# Altium footprint library 400236.PcbLib: 96 footprints (part 6 of 6)
Each footprint in its own frame and in the unit in brackets; x right, y up, seen from the top. Pads: shape width x height; smd on the part's side, far side on the other; paste and mask are expansions set on the pad; w line width, h text height; cw(c..) or ccw(c..) is an arc to the next point about the centre after c.
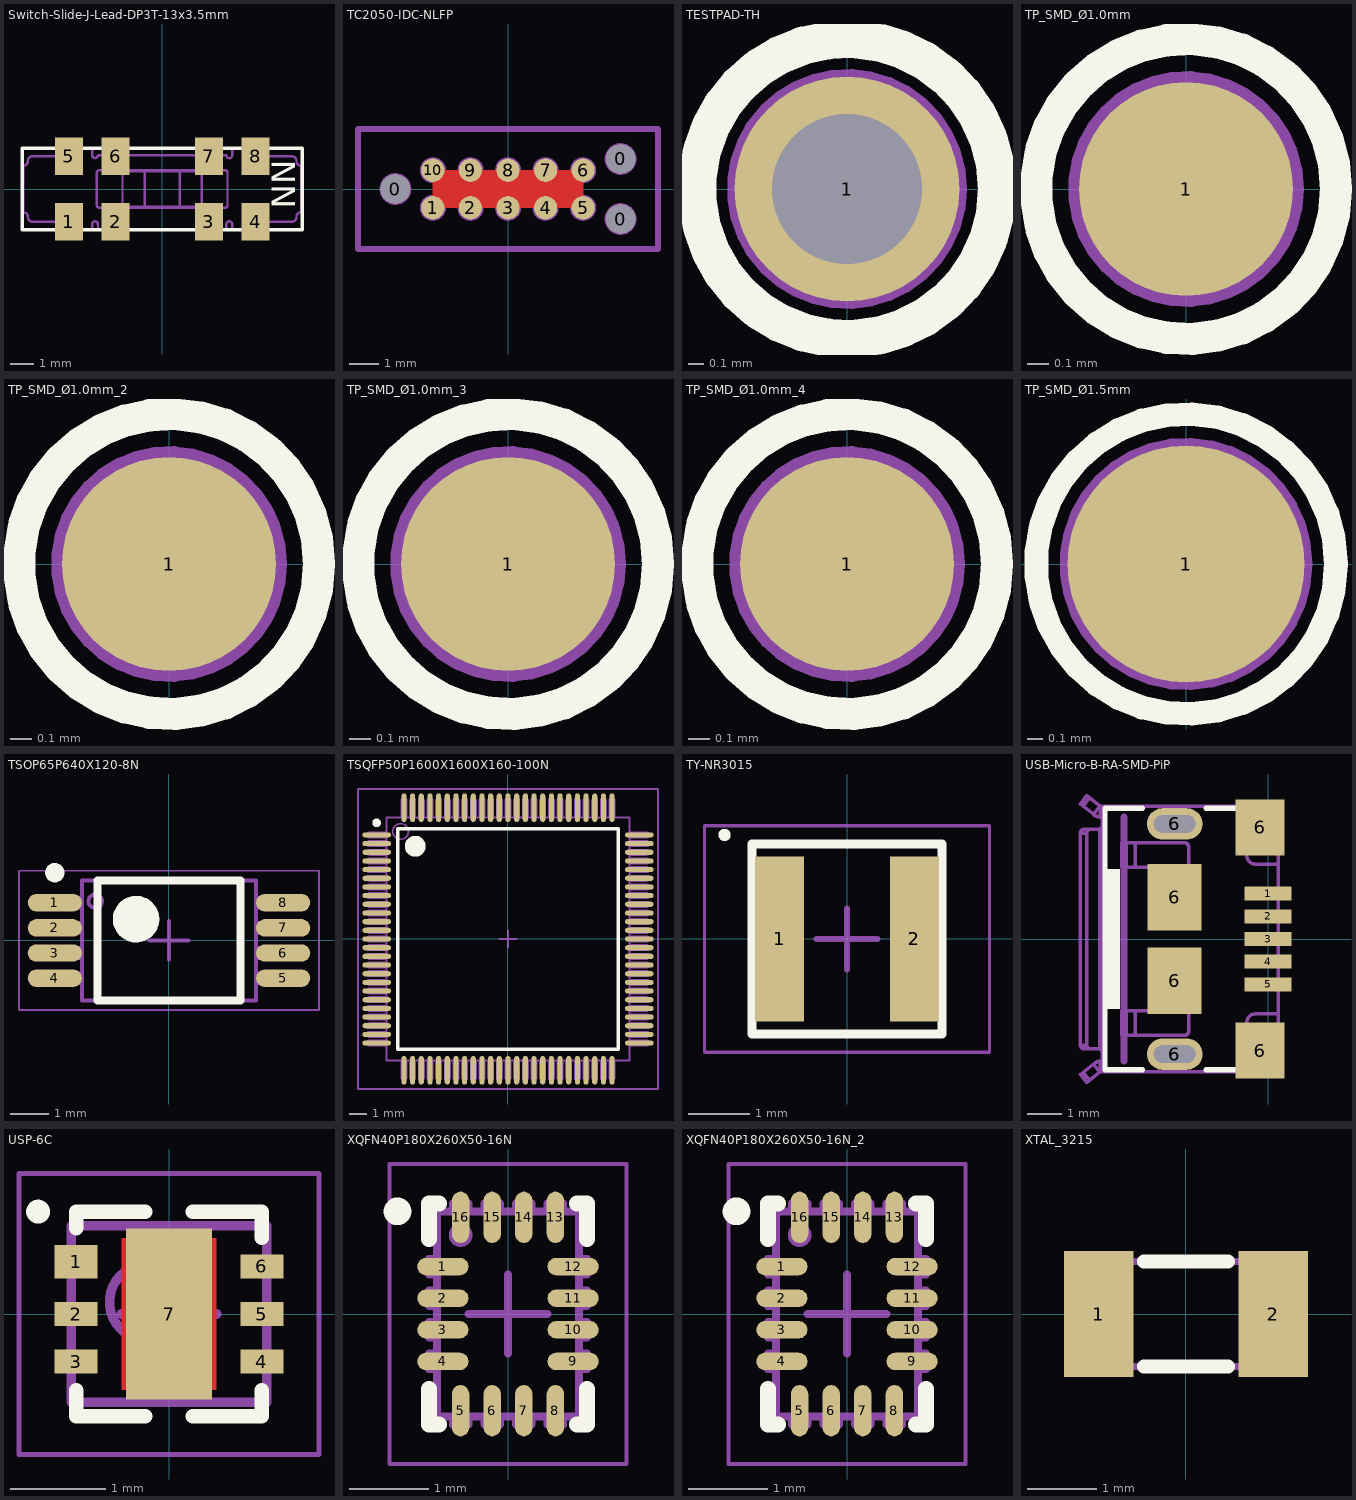
[diagram p5: the footprints below, top view; thin cyan lines are the x and y axes]

## Switch-Slide-J-Lead-DP3T-13x3.5mm [mm]
pads (8):
  rect 1.2x1.6 smd: 1(-4,-1.4) 2(-2,-1.4) 3(2,-1.4) 4(4,-1.4) 5(-4,1.4) 6(-2,1.4) 7(2,1.4) 8(4,1.4)
Top Overlay:
  lines w0.152: -6,-1.75 6,-1.75 6,1.75 -6,1.75 -6,-1.75
  text "NN" at 5.7,-0.85 h1.02
Mechanical 7:
  lines w0.1: -6.002,-1.75 -6.002,-1 -5.952,-1 ; -6.002,1.751 -6.002,1.001 -5.952,1.001 ; -6,-1.75 6,-1.75 6,-1 5.95,-1 ; -6,1.751 6,1.751 6,1.001 5.95,1.001 ; -4.003,1.4 -4.002,1.751 ; -4.003,1.4 cw(c-4.127,1.4) -4.252,1.4 -5.552,1.4 ccw(c-5.552,1.2) -5.752,1.191 cw(c-5.943,1.191) -5.952,1.001 ; -4.002,-1.75 -4.002,-1.6 ccw(c-4.203,-1.601) -4.19,-1.4 -5.552,-1.399 cw(c-5.552,-1.199) -5.752,-1.19 ccw(c-5.943,-1.19) -5.952,-1 ; -3.002,1.45 -3.002,1.751 ; -3.002,-1.75 -3.002,-1.51 cw(c-2.877,-1.51) -2.752,-1.51 -2.752,-1.75 ; -3.002,1.448 ccw(c-2.877,1.448) -2.752,1.448 2.75,1.448 ccw(c2.875,1.448) 2.999,1.448 ; 0.748,-0.75 1.698,-0.75 1.698,0.75 0.748,0.75 ; 2.75,-1.75 2.75,-1.51 cw(c2.875,-1.51) 2.999,-1.51 2.999,-1.75 ; 3,1.45 3,1.751 ; 4,-1.75 4,-1.6 cw(c4.201,-1.601) 4.188,-1.4 5.55,-1.399 ccw(c5.55,-1.199) 5.75,-1.19 cw(c5.94,-1.19) 5.95,-1 ; 4,1.751 4,1.4 ; 4,1.4 ccw(c4.125,1.4) 4.25,1.4 5.55,1.4 cw(c5.55,1.2) 5.75,1.191 ccw(c5.94,1.191) 5.95,1.001 ; -5.952,-1 -5.952,1.001 ; -0.751,-0.75 -1.701,-0.75 -1.701,0.75 -0.751,0.75 ; -0.751,-0.75 0.749,-0.75 0.749,0.75 -0.751,0.75 ; -0.751,-0.75 -0.751,0.75 ; 5.95,-1 5.95,1.001 ; -2.8,-0.7 ccw(c-2.7,-0.7) -2.7,-0.8 2.7,-0.8 ccw(c2.7,-0.7) 2.8,-0.7 2.8,0.7 ccw(c2.7,0.7) 2.7,0.8 -2.7,0.8 ccw(c-2.7,0.7) -2.8,0.7 -2.8,-0.7
  text ".Designator" at -0.447,-0.149 h0.3
3D body "CL-SB-23A-01T.stp": height 5.5, standoff 0, extent -6,-1.8 6,1.7

## TC2050-IDC-NLFP [mil]
pads (13):
  round 39 hole 39 unplated mask+3: 0(-150,0) 0(150,-40) 0(150,40)
  round 31 smd paste-196.85: 1(-100,-25) 2(-50,-25) 3(0,-25) 4(50,-25) 5(100,-25) 6(100,25) 7(50,25) 8(0,25) 9(-50,25) 10(-100,25)
Top Layer:
  pour cut-out: -100,25 -100,-25 100,-25 100,25
Mechanical 7:
  circle w3.94: c-100,24.99 r15.45
  circle w3.94: c-100,-24.99 r15.45
  circle w3.94: c-50,-24.99 r15.45
  circle w3.94: c0,-24.99 r15.45
  circle w3.94: c0,24.99 r15.45
  circle w3.94: c-50,24.99 r15.45
  circle w3.94: c50,24.99 r15.45
  circle w3.94: c50,-24.99 r15.45
  circle w3.94: c100,-24.99 r15.45
  circle w3.94: c100,24.99 r15.45
  circle w3.94: c150,-39.98 r19.26
  circle w3.94: c150,39.98 r19.26
  circle w3.94: c-150,0 r19.26
  text ".Designator" at -10,-70 h15
Mechanical 8:
  circle w3.94: c-150,0 r19.26
  circle w3.94: c150,39.98 r19.26
  circle w3.94: c150,-39.98 r19.26
Mechanical 15:
  lines w7.87: -199.8,-79.92 -199.8,79.92 199.8,79.92 199.8,-79.92 -199.8,-79.92

## TESTPAD-TH [mm]
pads (1):
  round 1.5 hole 1: 1(0,0)
Top Overlay:
  circle w0.254: c0,0 r1
Mechanical 7:
  circle w0.1: c0,0 r1
  circle w0.1: c0,0 r0.75
  circle w0.1: c0,0 r0.5
  text ".Designator" at -0.483,-0.178 h0.3

## TP_SMD_Ø1.0mm [mm]
pads (1):
  round 1 smd paste-5: 1(0,0)
Top Overlay:
  circle w0.15: c0,0 r0.7
Mechanical 7:
  circle w0.1: c0,0 r0.5
  circle w0.1: c0,0 r0.7
  text ".Designator" at -0.633,0.918 h0.38

## TP_SMD_Ø1.0mm_2 [mm]
pads (1):
  round 1 smd paste-5: 1(0,0)
Top Overlay:
  circle w0.15: c0,0 r0.7
Mechanical 7:
  circle w0.1: c0,0 r0.7
  circle w0.1: c0,0 r0.5
  text ".Designator" at -0.541,-0.15 h0.3

## TP_SMD_Ø1.0mm_3 [mm]
pads (1):
  round 1 smd paste-5: 1(0,0)
Top Overlay:
  circle w0.15: c0,0 r0.7
Mechanical 7:
  circle w0.1: c0,0 r0.7
  circle w0.1: c0,0 r0.5
  text ".Designator" at -0.541,-0.15 h0.3

## TP_SMD_Ø1.0mm_4 [mm]
pads (1):
  round 1 smd paste-5: 1(0,0)
Top Overlay:
  circle w0.15: c0,0 r0.7
Mechanical 7:
  circle w0.1: c0,0 r0.7
  circle w0.1: c0,0 r0.5
  text ".Designator" at 0.535,0.139 h0.3

## TP_SMD_Ø1.5mm [mm]
pads (1):
  round 1.5 smd paste-5: 1(0,0)
Top Overlay:
  circle w0.15: c0,0 r0.95
Mechanical 7:
  circle w0.1: c0,0 r0.75
  circle w0.1: c0,0 r0.95
  text ".Designator" at -0.9,1.175 h0.38

## TSOP65P640X120-8N [mm]
pads (8):
  oval 1.4x0.45 smd: 1(-2.95,0.975) 2(-2.95,0.325) 3(-2.95,-0.325) 4(-2.95,-0.975) 5(2.95,-0.975) 6(2.95,-0.325) 7(2.95,0.325) 8(2.95,0.975)
Top Overlay:
  circle w0.6: c-0.85,0.55 r0.3
  circle w0.25: c-2.95,1.75 r0.125
  lines w0.2: -1.85,-1.55 1.85,-1.55 1.85,1.55 -1.85,1.55 -1.85,-1.55
Mechanical 7:
  circle w0.1: c-1.905,1.016 r0.175
  lines w0.1: -2.25,-1.55 2.25,-1.55 2.25,1.55 -2.25,1.55 -2.25,-1.55
  lines w0.102: -2.25,-1.1 -3.25,-1.1 -3.25,-0.85 -2.25,-0.85 ; -2.25,-0.45 -3.25,-0.45 -3.25,-0.2 -2.25,-0.2 ; -2.25,0.2 -3.25,0.2 -3.25,0.45 -2.25,0.45 ; -2.25,0.85 -3.25,0.85 -3.25,1.1 -2.25,1.1 ; 2.25,-1.1 3.25,-1.1 3.25,-0.85 2.25,-0.85 ; 2.25,-0.45 3.25,-0.45 3.25,-0.2 2.25,-0.2 ; 2.25,0.2 3.25,0.2 3.25,0.45 2.25,0.45 ; 2.25,0.85 3.25,0.85 3.25,1.1 2.25,1.1
Mechanical 15:
  lines w0.05: -3.875,-1.8 3.875,-1.8 3.875,1.8 -3.875,1.8 -3.875,-1.8
  lines w0.1: -0.5,0 0.5,0 ; 0,-0.5 0,0.5
3D body "TSOP65P640X120-8N_asfdasdf.step": height 1.2, standoff 0, extent -3.2,-1.55 3.2,1.55

## TSQFP50P1600X1600X160-100N [mm]
pads (100):
  oval 1.65x0.3 smd: 1(-7.575,6) 2(-7.575,5.5) 3(-7.575,5) 4(-7.575,4.5) 5(-7.575,4) 6(-7.575,3.5) 7(-7.575,3) 8(-7.575,2.5) 9(-7.575,2) 10(-7.575,1.5) 11(-7.575,1) 12(-7.575,0.5) 13(-7.575,0) 14(-7.575,-0.5) 15(-7.575,-1) 16(-7.575,-1.5) 17(-7.575,-2) 18(-7.575,-2.5) 19(-7.575,-3) 20(-7.575,-3.5) 21(-7.575,-4) 22(-7.575,-4.5) 23(-7.575,-5) 24(-7.575,-5.5) 25(-7.575,-6) 51(7.575,-6) 52(7.575,-5.5) 53(7.575,-5) 54(7.575,-4.5) 55(7.575,-4) 56(7.575,-3.5) 57(7.575,-3) 58(7.575,-2.5) 59(7.575,-2) 60(7.575,-1.5) 61(7.575,-1) 62(7.575,-0.5) 63(7.575,0) 64(7.575,0.5) 65(7.575,1) 66(7.575,1.5) 67(7.575,2) 68(7.575,2.5) 69(7.575,3) 70(7.575,3.5) 71(7.575,4) 72(7.575,4.5) 73(7.575,5) 74(7.575,5.5) 75(7.575,6)
  oval 0.3x1.65 smd: 26(-6,-7.575) 27(-5.5,-7.575) 28(-5,-7.575) 29(-4.5,-7.575) 30(-4,-7.575) 31(-3.5,-7.575) 32(-3,-7.575) 33(-2.5,-7.575) 34(-2,-7.575) 35(-1.5,-7.575) 36(-1,-7.575) 37(-0.5,-7.575) 38(0,-7.575) 39(0.5,-7.575) 40(1,-7.575) 41(1.5,-7.575) 42(2,-7.575) 43(2.5,-7.575) 44(3,-7.575) 45(3.5,-7.575) 46(4,-7.575) 47(4.5,-7.575) 48(5,-7.575) 49(5.5,-7.575) 50(6,-7.575) 76(6,7.575) 77(5.5,7.575) 78(5,7.575) 79(4.5,7.575) 80(4,7.575) 81(3.5,7.575) 82(3,7.575) 83(2.5,7.575) 84(2,7.575) 85(1.5,7.575) 86(1,7.575) 87(0.5,7.575) 88(0,7.575) 89(-0.5,7.575) 90(-1,7.575) 91(-1.5,7.575) 92(-2,7.575) 93(-2.5,7.575) 94(-3,7.575) 95(-3.5,7.575) 96(-4,7.575) 97(-4.5,7.575) 98(-5,7.575) 99(-5.5,7.575) 100(-6,7.575)
Top Overlay:
  circle w0.25: c-7.575,6.7 r0.125
  circle w0.6: c-5.35,5.35 r0.3
  lines w0.2: -6.35,-6.35 -6.35,6.35 6.35,6.35 6.35,-6.35 -6.35,-6.35
Mechanical 7:
  drawing of 405 lines, arcs and shapes, not listed
Mechanical 15:
  lines w0.1: -0.5,0 0.5,0 ; 0,-0.5 0,0.5 ; -8.65,-8.65 -8.65,8.65 8.65,8.65 8.65,-8.65 -8.65,-8.65
3D body "User Library-LQFP-100 (2).step": height 1.6, standoff 0, extent -8.001,-8 7.999,8

## TY-NR3015 [mm]
pads (2):
  rect 0.8x2.7 smd: 1(-1.1,0) 2(1.1,0)
Top Overlay:
  circle w0.1: c-2,1.7 r0.05
  lines w0.15: -1.55,-1.55 -1.55,1.55 1.55,1.55 1.55,-1.55 -1.55,-1.55
Mechanical 13:
  lines w0.1: -1.55,-1.55 -1.55,1.55 1.55,1.55 1.55,-1.55 -1.55,-1.55
Mechanical 15:
  lines w0.05: -2.325,-1.85 -2.325,1.85 2.325,1.85 2.325,-1.85 -2.325,-1.85
  lines w0.1: -0.5,0 0.5,0 ; 0,-0.5 0,0.5
3D body "User Library-nr3015.step": height 1.35, standoff -0.15, extent -1.5,-1.5 1.5,1.5

## USB-Micro-B-RA-SMD-PiP [mm]
pads (13):
  rect 1.35x0.4 smd: 1(0,1.3) 2(0,0.65) 3(0,0) 4(0,-0.65) 5(0,-1.3)
  oval 1.6x0.9 hole 0.5 slot 1.2 at 0 deg: 6(-2.675,-3.3) 6(-2.675,3.3)
  oval 2x1.5 on Top Paste: 6(-2.675,-3.3) 6(-2.675,3.3)
  rect 1.55x1.9 smd: 6(-2.675,-1.2) 6(-2.675,1.2)
  rect 1.4x1.6 smd: 6(-0.225,-3.2) 6(-0.225,3.2)
Top Overlay:
  rectangle: -4.75,-2 -4.25,2
  lines w0.152: -3.6,-3.75 -4.675,-3.75 -4.675,3.75 -3.6,3.75 ; -1.775,-3.75 0.25,-3.75 0.25,-3.275 ; -1.775,3.75 0.25,3.75 0.25,3.275
Mechanical 7:
  drawing of 2738 lines, arcs and shapes, not listed
  text ".Designator" at -3.414,-0.127 h0.3
Mechanical 15:
  lines w0.2: -4.125,-3.5 -4.125,3.5
3D body "User Library-MicroUSB-B_Molex_105017-0001.step": height 2.72, standoff -0.59, extent -5.28,-4.1 0.15,4.1

## USP-6C [mm]
pads (7):
  rect 0.45x0.35 smd paste-0.05: 1(-0.975,0.55)
  rect 0.45x0.25 smd paste-0.05: 2(-0.975,0) 3(-0.975,-0.5) 4(0.975,-0.5) 5(0.975,0) 6(0.975,0.5)
  rect 0.9x1.8 smd paste-2: 7(0,0)
Top Layer:
  rectangle: -0.5,-0.8 0.5,0.8
Top Overlay:
  circle w0.15: c-1.375,1.075 r0.05
  lines w0.15: -0.975,-0.8 -0.975,-1.075 -0.25,-1.075 ; -0.975,0.9 -0.975,1.075 -0.25,1.075 ; 0.25,-1.075 0.975,-1.075 0.975,-0.8 ; 0.25,1.075 0.975,1.075 0.975,0.8
Top Paste:
  rectangle: 0.8,0.375 1.15,0.625
  rectangle: 0.8,-0.125 1.15,0.125
  rectangle: 0.8,-0.625 1.15,-0.375
  rectangle: -1.15,-0.625 -0.8,-0.375
  rectangle: -1.15,-0.125 -0.8,0.125
  rectangle: -1.15,0.375 -0.8,0.725
  region: 0.4,-0.3 -0.4,-0.3 -0.4,-0.6 0.4,-0.6
  region: 0.25,-0.325 -0.25,-0.325 -0.25,-0.7 0.25,-0.7
  rectangle: -0.25,0.325 0.25,0.7
  rectangle: -0.4,0.3 0.4,0.6
Mechanical 7:
  circle w0.1: c-0.225,0.125 r0.4
  lines w0.1: -1.025,-0.925 1.025,-0.925 1.025,0.925 -1.025,0.925 -1.025,-0.925
  text ".Designator" at 0.66,-0.33 h0.3
Mechanical 15:
  lines w0.05: -1.575,-1.475 1.575,-1.475 1.575,1.475 -1.575,1.475 -1.575,-1.475
  lines w0.1: -0.5,0 0.5,0 ; 0,-0.5 0,0.5
3D body "QFN50P200X180X60_HS-7N.step": height 0.6, standoff 0, extent -0.926,-1.025 0.926,1.025

## XQFN40P180X260X50-16N [mm]
pads (16):
  oval 0.65x0.22 smd paste-0.02 mask+0.062: 1(-0.825,0.6) 2(-0.825,0.2) 3(-0.825,-0.2) 4(-0.825,-0.6) 9(0.825,-0.6) 10(0.825,-0.2) 11(0.825,0.2) 12(0.825,0.6)
  oval 0.22x0.65 smd paste-0.02 mask+0.062: 5(-0.6,-1.225) 6(-0.2,-1.225) 7(0.2,-1.225) 8(0.6,-1.225) 13(0.6,1.225) 14(0.2,1.225) 15(-0.2,1.225) 16(-0.6,1.225)
Top Overlay:
  circle w0.25: c-1.4,1.3 r0.05
  lines w0.2: -1,-0.95 -1,-1.4 -0.875,-1.4 ; -1,0.95 -1,1.4 -0.875,1.4 ; 0.875,-1.4 1,-1.4 1,-0.95 ; 0.875,1.4 1,1.4 1,0.95
Mechanical 7:
  circle w0.1: c-0.6,1 r0.1
  lines w0.1: -0.9,-0.7 -1,-0.7 -1,-0.5 -0.9,-0.5 ; -0.9,-0.3 -1,-0.3 -1,-0.1 -0.9,-0.1 ; -0.9,0.1 -1,0.1 -1,0.3 -0.9,0.3 ; -0.9,0.5 -1,0.5 -1,0.7 -0.9,0.7 ; -0.7,-1.3 -0.7,-1.4 -0.5,-1.4 -0.5,-1.3 ; -0.7,1.3 -0.7,1.4 -0.5,1.4 -0.5,1.3 ; -0.3,-1.3 -0.3,-1.4 -0.1,-1.4 -0.1,-1.3 ; -0.3,1.3 -0.3,1.4 -0.1,1.4 -0.1,1.3 ; 0.1,-1.3 0.1,-1.4 0.3,-1.4 0.3,-1.3 ; 0.1,1.3 0.1,1.4 0.3,1.4 0.3,1.3 ; 0.5,-1.3 0.5,-1.4 0.7,-1.4 0.7,-1.3 ; 0.5,1.3 0.5,1.4 0.7,1.4 0.7,1.3 ; 0.9,-0.7 1,-0.7 1,-0.5 0.9,-0.5 ; 0.9,-0.3 1,-0.3 1,-0.1 0.9,-0.1 ; 0.9,0.1 1,0.1 1,0.3 0.9,0.3 ; 0.9,0.5 1,0.5 1,0.7 0.9,0.7 ; -0.9,-1.3 -0.9,1.3 0.9,1.3 0.9,-1.3 -0.9,-1.3
  text ".Designator" at -0.126,0.193 h0.3
Mechanical 15:
  lines w0.05: -1.5,-1.9 -1.5,1.9 1.5,1.9 1.5,-1.9 -1.5,-1.9
  lines w0.1: -0.5,0 0.5,0 ; 0,-0.5 0,0.5
3D body "User Library-XQFN-16-1.step": height 0.55, standoff 0, extent -0.91,-1.31 0.91,1.31
3D body: height 0.55, standoff 0.4, extent -0.9,-0.35 0.9,0.35

## XQFN40P180X260X50-16N_2 [mm]
pads (16):
  oval 0.65x0.22 smd paste-0.02 mask+0.062: 1(-0.825,0.6) 2(-0.825,0.2) 3(-0.825,-0.2) 4(-0.825,-0.6) 9(0.825,-0.6) 10(0.825,-0.2) 11(0.825,0.2) 12(0.825,0.6)
  oval 0.22x0.65 smd paste-0.02 mask+0.062: 5(-0.6,-1.225) 6(-0.2,-1.225) 7(0.2,-1.225) 8(0.6,-1.225) 13(0.6,1.225) 14(0.2,1.225) 15(-0.2,1.225) 16(-0.6,1.225)
Top Overlay:
  circle w0.25: c-1.4,1.3 r0.05
  lines w0.2: -1,-0.95 -1,-1.4 -0.875,-1.4 ; -1,0.95 -1,1.4 -0.875,1.4 ; 0.875,-1.4 1,-1.4 1,-0.95 ; 0.875,1.4 1,1.4 1,0.95
Mechanical 7:
  circle w0.1: c-0.6,1 r0.1
  lines w0.1: -0.9,-0.7 -1,-0.7 -1,-0.5 -0.9,-0.5 ; -0.9,-0.3 -1,-0.3 -1,-0.1 -0.9,-0.1 ; -0.9,0.1 -1,0.1 -1,0.3 -0.9,0.3 ; -0.9,0.5 -1,0.5 -1,0.7 -0.9,0.7 ; -0.7,-1.3 -0.7,-1.4 -0.5,-1.4 -0.5,-1.3 ; -0.7,1.3 -0.7,1.4 -0.5,1.4 -0.5,1.3 ; -0.3,-1.3 -0.3,-1.4 -0.1,-1.4 -0.1,-1.3 ; -0.3,1.3 -0.3,1.4 -0.1,1.4 -0.1,1.3 ; 0.1,-1.3 0.1,-1.4 0.3,-1.4 0.3,-1.3 ; 0.1,1.3 0.1,1.4 0.3,1.4 0.3,1.3 ; 0.5,-1.3 0.5,-1.4 0.7,-1.4 0.7,-1.3 ; 0.5,1.3 0.5,1.4 0.7,1.4 0.7,1.3 ; 0.9,-0.7 1,-0.7 1,-0.5 0.9,-0.5 ; 0.9,-0.3 1,-0.3 1,-0.1 0.9,-0.1 ; 0.9,0.1 1,0.1 1,0.3 0.9,0.3 ; 0.9,0.5 1,0.5 1,0.7 0.9,0.7 ; -0.9,-1.3 0.9,-1.3 0.9,1.3 -0.9,1.3 -0.9,-1.3
  text ".Designator" at -0.075,0.336 h0.3
Mechanical 15:
  lines w0.05: -1.5,-1.9 1.5,-1.9 1.5,1.9 -1.5,1.9 -1.5,-1.9
  lines w0.1: -0.5,0 0.5,0 ; 0,-0.5 0,0.5
3D body: height 0.55, standoff 0.4, extent -0.9,-0.35 0.9,0.35
3D body "User Library-XQFN-16-1.step": height 0.55, standoff 0, extent -0.91,-1.31 0.91,1.31

## XTAL_3215 [mm]
pads (2):
  rect 1x1.8 smd: 1(-1.25,0) 2(1.25,0)
Top Overlay:
  lines w0.2: -0.6,-0.75 0.6,-0.75 ; -0.6,0.75 0.6,0.75
Mechanical 7:
  lines w0.1: -1.6,-0.75 -1.6,0.75 1.6,0.75 1.6,-0.75 -1.6,-0.75
  text ".Designator" at -0.261,-0.184 h0.3
Mechanical 15:
  lines w0.1: -1.6,-0.55 cw(c-1.6,-0.75) -1.4,-0.75 1.4,-0.75 cw(c1.6,-0.75) 1.6,-0.55 1.6,0.55 cw(c1.6,0.75) 1.4,0.75 -1.4,0.75 cw(c-1.6,0.75) -1.6,0.55 -1.6,-0.55
3D body: height 0.81, standoff 0.15, extent -1.2,-0.6 1.2,0.6
3D body "User Library-Siward_SX3215.step": height 0.81, standoff 0, extent -1.6,-0.75 1.6,0.75